# Altium schematic symbol library BUZZER-PIEZO.SchLib: 1 symbol
Pins are listed as number, name and electrical type; pins without a type are passive.

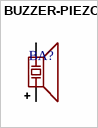
[diagram p0: symbol BUZZER-PIEZO]

## BUZZER-PIEZO
designator BA?
pins: 1, 2